# EAGLE library part LM74801QDRRRQ1 (library SamacSys_Parts)
3-V TO 65-V, AUTOMOTIVE IDEAL DI Source: Datasheet <https://www.ti.com/lit/gpn/LM7480-Q1>
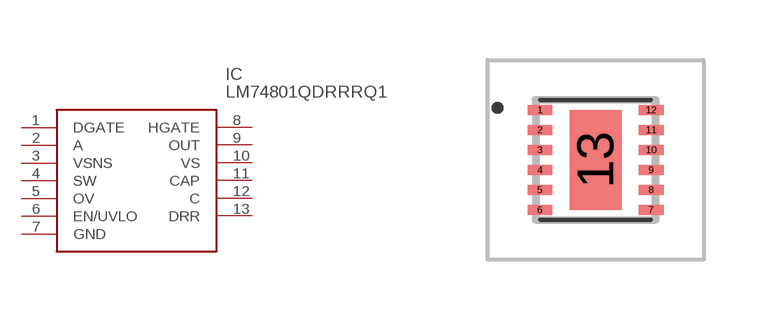
[diagram p2: symbol with the pads of LM74801QDRRRQ1; footprint LM74801QDRRRQ1]

Designator prefix IC

## LM74801QDRRRQ1 (DESCRIPTION: 3-V TO 65-V, AUTOMOTIVE IDEAL DI; HEIGHT: 0.8mm; MANUFACTURER_NAME: Texas Instruments; MANUFACTURER_PART_NUMBER: LM74801QDRRRQ1; MOUSER_PART_NUMBER: 595-LM74801QDRRRQ1; MOUSER_PRICE-STOCK: https://www.mouser.co.uk/ProductDetail/Texas-Instruments/LM74801QDRRRQ1?qs=zW32dvEIR3uHxOfYWHY8FQ%3D%3D)  [LM74801QDRRRQ1]
1  DGATE
2  A
3  VSNS
4  SW
5  OV
6  EN/UVLO
7  GND
8  HGATE
9  OUT
10  VS
11  CAP
12  C
13  DRR

## Footprint LM74801QDRRRQ1 (pad centres in mm)
LM74801QDRRRQ1-3
smd 0.62 x 0.25: 1 -1.39,1.25; 2 -1.39,0.75; 3 -1.39,0.25; 4 -1.39,-0.25; 5 -1.39,-0.75; 6 -1.39,-1.25; 7 1.39,-1.25; 8 1.39,-0.75; 9 1.39,-0.25; 10 1.39,0.25; 11 1.39,0.75; 12 1.39,1.25
smd 1.3 x 2.5: 13 0,0